# EAGLE library part PINHD1X6 (library eagle-library-edeca.net-v5)
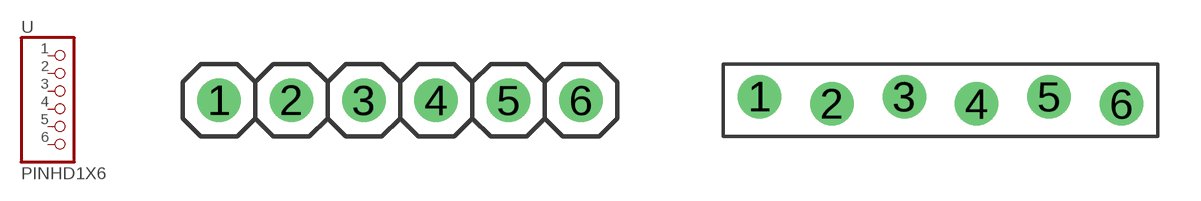
[diagram p18: symbol with the pads of PINHD1X06; footprints PINHD1X06, PINHD1X06-SQUARE]

Designator prefix -

## PINHD1X6  [PINHD1X06]
1  1  pas
2  2  pas
3  3  pas
4  4  pas
5  5  pas
6  6  pas

## PINHD1X6SQUARE  [PINHD1X06-SQUARE]
Pads as for PINHD1X06

## Footprint PINHD1X06 (pad centres in mm)
drill 1.016: 1 -6.35,0; 2 -3.81,0; 3 -1.27,0; 4 1.27,0; 5 3.81,0; 6 6.35,0

## Footprint PINHD1X06-SQUARE (pad centres in mm)
drill 1.016: 1 -6.35,0.127; 2 -3.81,-0.127; 3 -1.27,0.127; 4 1.27,-0.127; 5 3.81,0.127; 6 6.35,-0.127